# Altium schematic symbol library MOUNTING HOLE M2.Schlib: 1 symbol
Pins are listed as number, name and electrical type; pins without a type are passive.

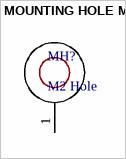
[diagram p0: symbol MOUNTING HOLE M2]

## MOUNTING HOLE M2
designator MH?, comment M2 Hole  (no BOM)
Standard M2 Mounting Hole for M2 Standoff
footprint Mounting Hole M2
pins: 1